# Altium schematic symbol library Opto.SchLib: 7 symbols
Pins are listed as number, name and electrical type; pins without a type are passive.

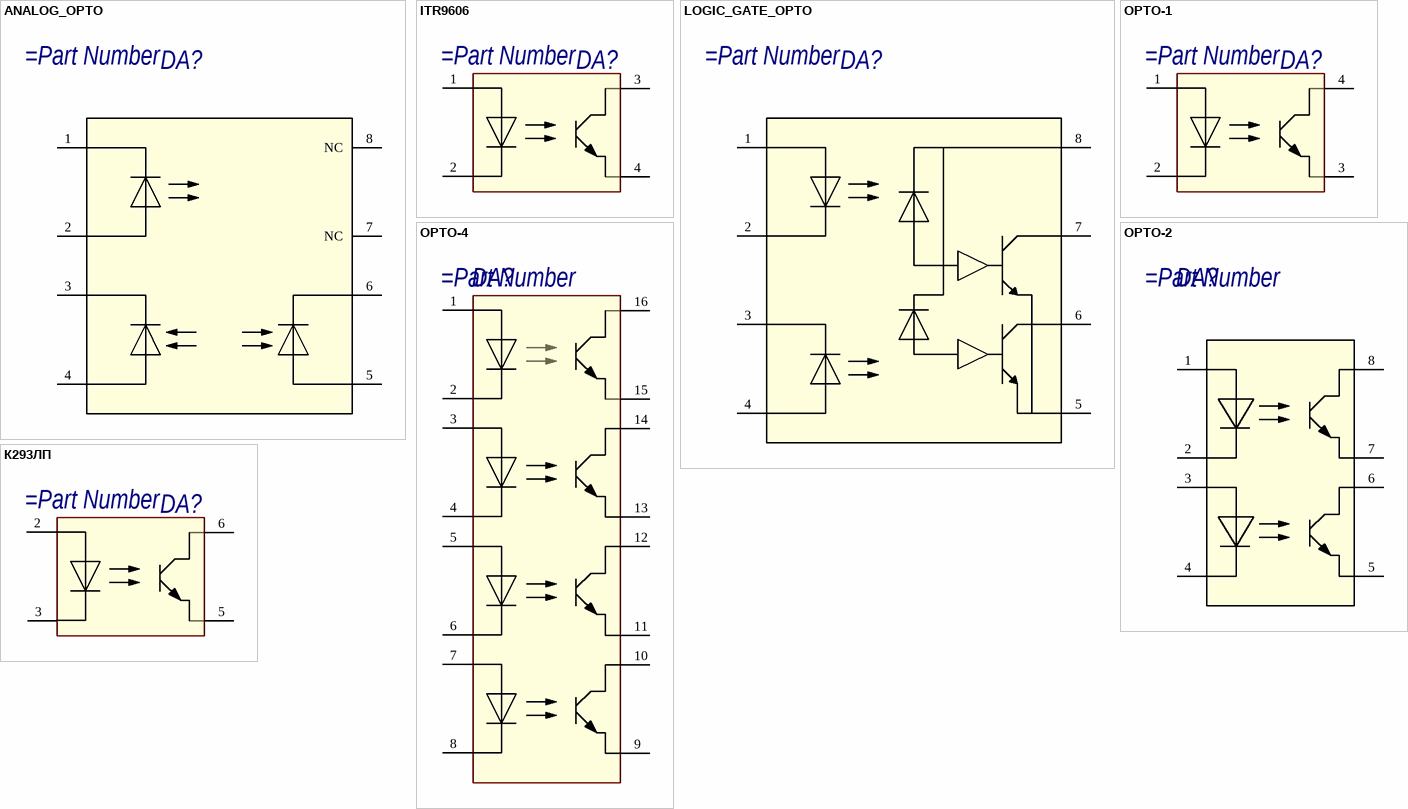
[diagram p0: symbols ANALOG_OPTO to К293ЛП]

## ANALOG_OPTO
designator DA?
Линейная аналоговая оптопара
pins: 1 LED CATHODE, 2 LED ANODE, 3 PD1 CATHODE, 4 PD1 ANODE, 5 PD2 ANODE, 6 PD2 CATHODE, 7 NC, 8 NC

## ITR9606
designator DA?
Опторазвязка
pins: 1, 2, 3, 4

## LOGIC_GATE_OPTO
designator DA?
Оптопара двухканальная высокоскоростная 10 Мбит/с логическими уровнями на выходе
pins: 1 +, 2 -, 3 -, 4 +, 5 GND, 6 V02, 7 V01, 8 Vcc

## OPTO-1
designator DA?
Опторазвязка
pins: 1, 2, 3, 4

## OPTO-2
designator DA?
Опторазвязка х4
pins: 1, 2, 3, 4, 5, 6, 7, 8

## OPTO-4
designator DA?
Опторазвязка х4
pins: 1, 2, 3, 4, 5, 6, 7, 8, 9, 10, 11, 12, 13, 14, 15, 16

## К293ЛП
designator DA?
Опторазвязка
pins: 2, 3, 5, 6